# Altium footprint library RLC.PcbLib: 45 footprints (part 2 of 3)
Each footprint in its own frame and in the unit in brackets; x right, y up, seen from the top. Pads: shape width x height; smd on the part's side, far side on the other; paste and mask are expansions set on the pad; w line width, h text height; cw(c..) or ccw(c..) is an arc to the next point about the centre after c.
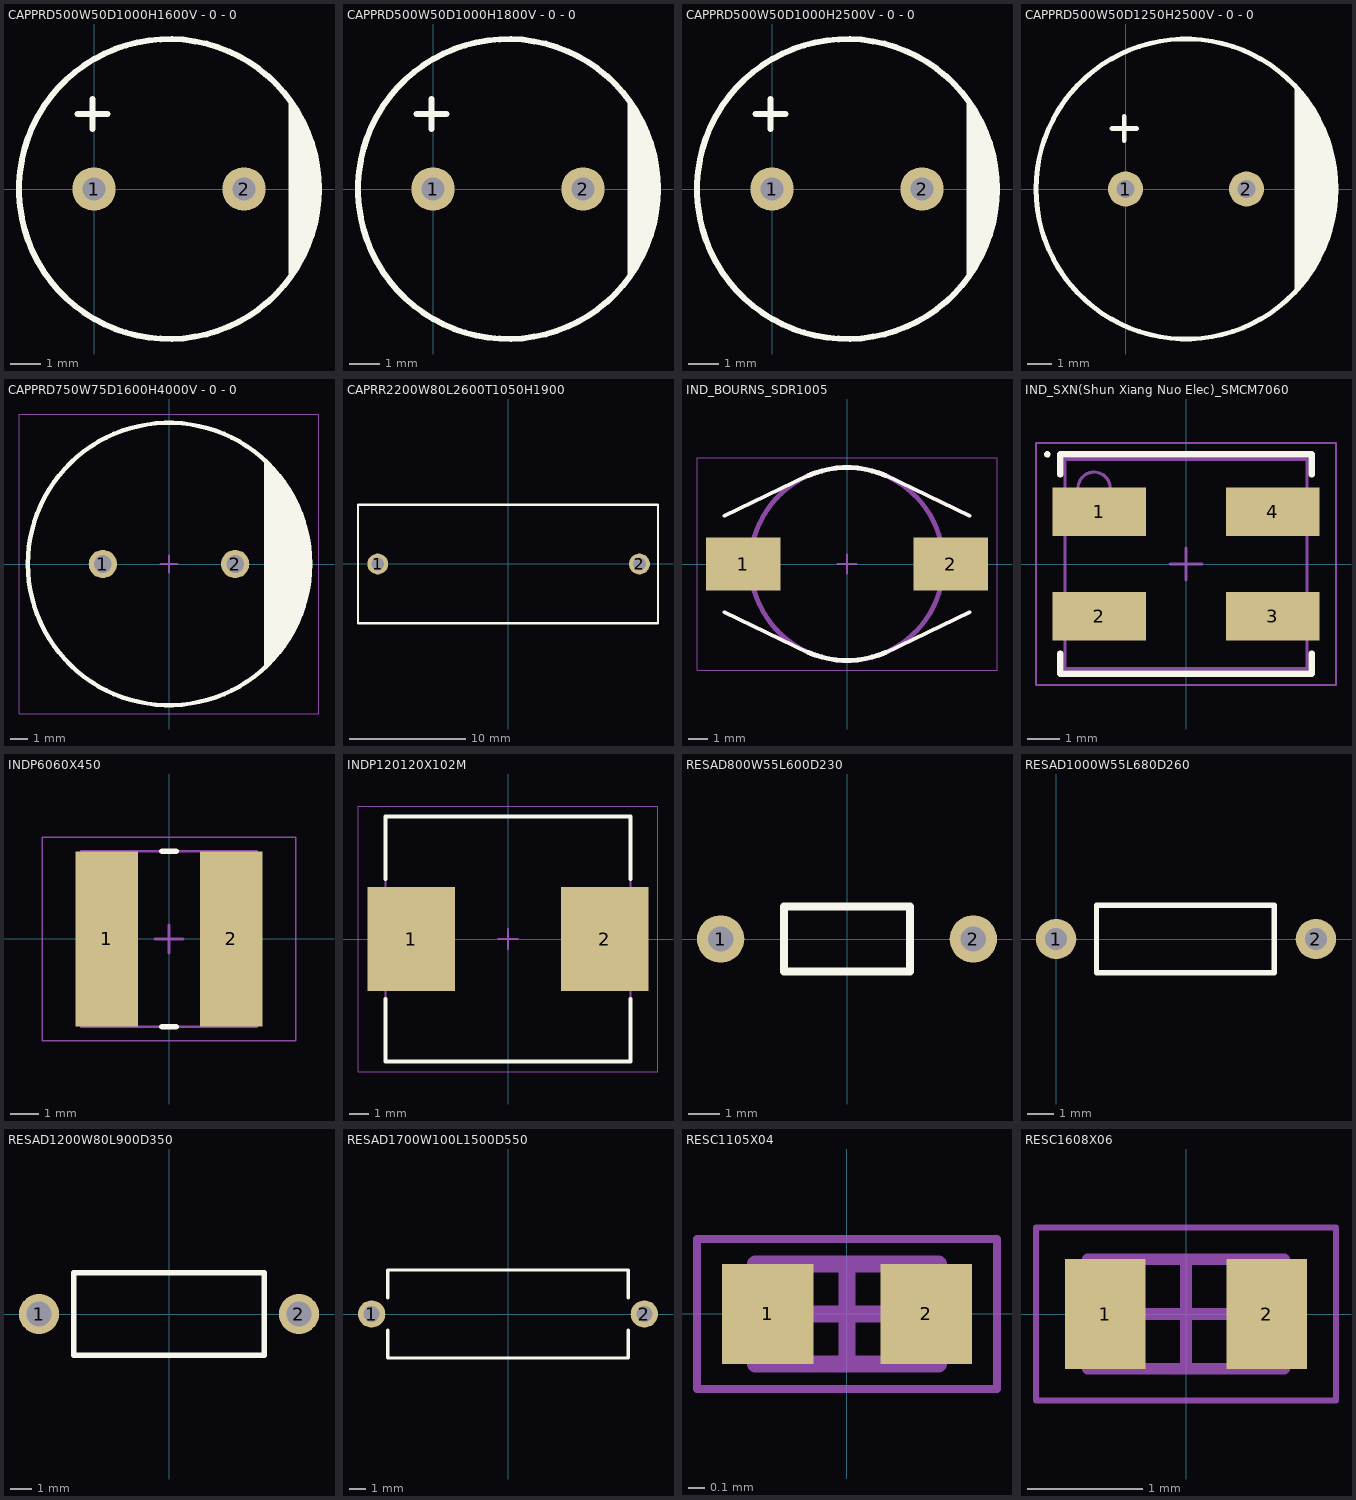
[diagram p1: the footprints below, top view; thin cyan lines are the x and y axes]

## CAPPRD500W50D1000H1600V - 0 - 0 [mm] "CAP ALUM RADIAL DIA 10MM HEIGHT 16MM PITCH 5MM"
height 16
pads (2):
  round 1.45 hole 0.75: 1(0,0) 2(5,0)
Top Overlay:
  circle w0.2: c2.5,0 r5
  region: 6.5,3 6.5,-3 7.2,-1.8 7.5,-0.4 7.5,0.7 7,2.3
  lines w0.2: -0.558,2.5 0.458,2.5 ; -0.05,1.992 -0.05,3.008
3D body: height 10, standoff 0, extent 8.8,2.4 8.8,2.4
3D body: height 16, standoff 0, extent -2.5,-5 7.5,5

## CAPPRD500W50D1000H1800V - 0 - 0 [mm] "CAP ALUM RADIAL DIA 10MM HEIGHT 18MM PITCH 5MM"
height 18
pads (2):
  round 1.45 hole 0.75: 1(0,0) 2(5,0)
Top Overlay:
  circle w0.2: c2.5,0 r5
  region: 6.5,3 6.5,-3 7.2,-1.8 7.5,-0.4 7.5,0.7 7,2.3
  lines w0.2: -0.558,2.5 0.458,2.5 ; -0.05,1.992 -0.05,3.008
3D body: height 10, standoff 0, extent 8.8,2.4 8.8,2.4
3D body: height 18, standoff 0, extent -2.5,-5 7.5,5

## CAPPRD500W50D1000H2500V - 0 - 0 [mm] "CAP ALUM RADIAL DIA 10MM HEIGHT 25MM PITCH 5MM"
height 25
pads (2):
  round 1.45 hole 0.75: 1(0,0) 2(5,0)
Top Overlay:
  circle w0.2: c2.5,0 r5
  region: 6.5,3 6.5,-3 7.2,-1.8 7.5,-0.4 7.5,0.7 7,2.3
  lines w0.2: -0.558,2.5 0.458,2.5 ; -0.05,1.992 -0.05,3.008
3D body: height 10, standoff 0, extent 8.8,2.4 8.8,2.4
3D body: height 25, standoff 0, extent -2.5,-5 7.5,5

## CAPPRD500W50D1250H2500V - 0 - 0 [mm] "CAP ALUM RADIAL DIA 12.5MM HEIGHT 25MM PITCH 5MM"
height 25
pads (2):
  round 1.45 hole 0.75: 1(0,0) 2(5,0)
Top Overlay:
  circle w0.2: c2.5,0 r6.201
  region: 7,4.2 7,-4.2 7.8,-3.3 8.4,-2 8.7,-0.2 8.6,1.2 8,2.9 7.6,3.6
  lines w0.2: -0.558,2.5 0.458,2.5 ; -0.05,1.992 -0.05,3.008
3D body: height 10, standoff 0, extent 8.8,2.4 8.8,2.4
3D body: height 25, standoff 0, extent -3.75,-6.247 8.75,6.247

## CAPPRD750W75D1600H4000V - 0 - 0 [mm] "CAP ALUM RADIAL DIA 16MM HEIGHT 40MM PITCH 7.5MM"
height 40
pads (2):
  round 1.6 hole 1: 1(-3.75,0) 2(3.75,0)
Top Overlay:
  circle w0.254: c0,0 r8
  region: 5.5,5.75 5.5,-5.75 7,-4 8,-1 8,0.5 7.5,2.5 7,4
  lines w0.254: 5.5,-5.75 5.5,5.75
Board:
  lines w0.05: -8.5,-8.5 8.5,-8.5 8.5,8.5 -8.5,8.5 -8.5,-8.5
  lines w0.1: -0.5,0 0.5,0 ; 0,-0.5 0,0.5
3D body: height 40, standoff 0, extent -8,-8.003 8,7.997

## CAPRR2200W80L2600T1050H1900 [mm] "Capacitor, Non Polarized 26x10.5mm"
height 19
pads (2):
  round 1.8 hole 1.1: 1(-11.2,0) 2(11.3,0)
Top Overlay:
  lines w0.2: -12.9,-5.1 12.9,-5.1 12.9,5.1 -12.9,5.1 -12.9,-5.1
3D body: height 19, standoff 1, extent -13,-5.25 13,5.25

## IND_BOURNS_SDR1005 [mm] "Inductor, Miscellaneous"
height 5.3
pads (2):
  rect 3.85x2.75 smd: 1(-5.375,0) 2(5.375,0)
Top Overlay:
  lines w0.2: -6.35,-2.5 -2,-4.6 ; -6.35,2.5 -2,4.6 ; 2,-4.6 6.35,-2.5 ; 2,4.6 6.35,2.5
  lines w0.254: -1.994,-4.585 ccw(c0,0) 1.994,-4.585 ; -1.994,4.585 cw(c0,0) 1.994,4.585
TopAssy:
  lines w0.2: -6.35,-2.5 -2,-4.6 ; -6.35,2.5 -2,4.6 ; 2,-4.6 6.35,-2.5 ; 2,4.6 6.35,2.5
  lines w0.254: -1.994,-4.585 ccw(c0,0) 1.994,-4.585 ; -1.994,4.585 cw(c0,0) 1.994,4.585
3D Body:
  circle w0.254: c0,0 r5
Board:
  lines w0.05: -7.775,-5.5 -7.775,5.5 7.775,5.5 7.775,-5.5 -7.775,-5.5
  lines w0.1: -0.5,0 0.5,0 ; 0,-0.5 0,0.5
3D body: height 5, standoff 0, extent -5,0 0,5
3D body: height 1.24, standoff -1.25, extent 0,5 0,5
3D body: height 5, standoff 0, extent -5,-5 0,0
3D body: height 5, standoff 0, extent 0,-5 5,0
3D body: height 5, standoff 0, extent 0,0 5,5
3D body: height 2, standoff 0, extent -6.5,-4.619 -1.913,4.619
3D body: height 2, standoff 0, extent 1.913,-4.619 6.5,4.619

## IND_SXN(Shun Xiang Nuo Elec)_SMCM7060 [mm] "SMD 7x6mm"
height 3.8
pads (4):
  rect 2.9x1.5 smd: 1(-2.695,1.625) 2(-2.695,-1.625) 3(2.695,-1.625) 4(2.695,1.625)
Top Overlay:
  circle w0.1: c-4.3,3.4 r0.05
  lines w0.2: -3.9,-2.775 -3.9,-3.4 3.9,-3.4 3.9,-2.775 ; -3.9,2.775 -3.9,3.4 3.9,3.4 3.9,2.775
3D Body:
  circle w0.1: c-2.85,2.35 r0.5
  lines w0.1: -3.75,-3.25 3.75,-3.25 3.75,3.25 -3.75,3.25 -3.75,-3.25
Board:
  lines w0.05: -4.65,-3.75 4.65,-3.75 4.65,3.75 -4.65,3.75 -4.65,-3.75
  lines w0.1: -0.5,0 0.5,0 ; 0,-0.5 0,0.5
3D body: height 3.8, standoff 0, extent -3.75,-3.25 3.75,3.25

## INDP6060X450 [mm] "Precision Wire Wound Inductor, 2-Leads, Body 6,00x6,00mm, IPC Low Density"
height 4.5
pads (2):
  rect 2.2x6.2 smd: 1(-2.2,0) 2(2.2,0)
Top Overlay:
  lines w0.2: -0.25,-3.1 0.25,-3.1 ; -0.25,3.1 0.25,3.1
3D Body:
  lines w0.1: -3.1,-3.1 -3.1,3.1 3.1,3.1 3.1,-3.1 -3.1,-3.1
Board:
  lines w0.05: -4.475,-3.6 -4.475,3.6 4.475,3.6 4.475,-3.6 -4.475,-3.6
  lines w0.1: -0.5,0 0.5,0 ; 0,-0.5 0,0.5
3D body: height 4.5, standoff 0, extent -3.1,-3.1 3.1,3.1

## INDP120120X102M [mm] "Precision Wire Wound Inductor, 2-Leads, Body 12,00x12,00mm, IPC Low Density"
height 10.2
pads (2):
  rect 4.4x5.2 smd: 1(-4.85,0) 2(4.85,0)
Top Overlay:
  lines w0.2: -6.15,-3 -6.15,-6.15 6.15,-6.15 6.15,-3 ; -6.15,3 -6.15,6.15 6.15,6.15 6.15,3
3D Body:
  lines w0.1: -6.15,-6.15 -6.15,6.15 6.15,6.15 6.15,-6.15 -6.15,-6.15
Board:
  lines w0.05: -7.525,-6.65 -7.525,6.65 7.525,6.65 7.525,-6.65 -7.525,-6.65
  lines w0.1: -0.5,0 0.5,0 ; 0,-0.5 0,0.5
3D body: height 10.2, standoff 0, extent -6.15,-6.15 6.15,6.15

## RESAD800W55L600D230 [mm] "Resistor Lead Spacing 8mm Len 6mm Dia 2.3mm"
height 2.3
pads (2):
  round 1.5 hole 0.8: 1(-4,0) 2(4,0)
Top Overlay:
  lines w0.254: -2,-1.025 -2,1.025 2,1.025 2,-1.025 -2,-1.025
3D body: height 3.29, standoff 1, extent -3,-1.15 3,1.145

## RESAD1000W55L680D260 [mm] "Resistor Lead Spacing 10mm Len 6.8mm Dia 2.6mm"
height 3
pads (2):
  round 1.55 hole 0.85: 1(0,0) 2(10,0)
Top Overlay:
  lines w0.2: 1.55,-1.3 1.55,0 1.55,1.3 8.4,1.3 8.4,-1.3 1.55,-1.3
3D body: height 3.29, standoff 0.7, extent 1.6,-1.3 8.4,1.295

## RESAD1200W80L900D350 [mm] "Resistor Lead Spacing 12mm Len 9mm Dia 3.5mm"
height 3.5
pads (2):
  round 1.85 hole 1.15: 1(-6,0) 2(6,0)
Top Overlay:
  lines w0.254: -4.4,-1.9 4.4,-1.9 4.4,1.9 -4.4,1.9 -4.4,-1.9
3D body: height 5, standoff 1, extent -4.5,-2 4.5,2

## RESAD1700W100L1500D550 [mm] "Resistor Lead Spacing 17mm Len 158mm Dia 5.5mm"
height 5.5
pads (2):
  round 1.7 hole 1: 1(-8.5,0) 2(8.5,0)
Top Overlay:
  lines w0.2: -7.5,-1 -7.5,-2.75 7.5,-2.75 7.5,-1 ; -7.5,1 -7.5,2.75 7.5,2.75 7.5,1
3D body: height 5.75, standoff 0.25, extent -7.5,-2.75 7.5,2.75

## RESC1105X04 [mm] "Chip Resistor, 2-Leads, Body 1,05x0,54mm, IPC Medium Density 0402"
height 0.4
pads (2):
  rect 0.55x0.6 smd: 1(-0.475,0) 2(0.475,0)
3D Body:
  lines w0.1: -0.55,-0.3 -0.55,0.3 0.55,0.3 0.55,-0.3 -0.55,-0.3
Board:
  lines w0.05: -0.9,-0.45 -0.9,0.45 0.9,0.45 0.9,-0.45 -0.9,-0.45
  lines w0.1: -0.3,0 0.3,0 ; 0,-0.3 0,0.3
3D body: height 0.4, standoff 0, extent -0.35,-0.3 0.35,0.3
3D body: height 0.4, standoff 0, extent -0.55,-0.3 -0.35,0.3
3D body: height 0.4, standoff 0, extent 0.35,-0.3 0.55,0.3

## RESC1608X06 [mm] "Chip Resistor, 2-Leads, Body 1,60x0,82mm, IPC Medium Density 0603"
height 0.6
pads (2):
  rect 0.7x0.95 smd: 1(-0.7,0) 2(0.7,0)
3D Body:
  lines w0.1: -0.85,-0.475 0.85,-0.475 0.85,0.475 -0.85,0.475 -0.85,-0.475
Board:
  lines w0.05: -1.3,-0.75 1.3,-0.75 1.3,0.75 -1.3,0.75 -1.3,-0.75
  lines w0.1: -0.475,0 0.475,0 ; 0,-0.475 0,0.475
3D body: height 0.6, standoff 0, extent 0.57,-0.475 0.85,0.475
3D body: height 0.6, standoff 0, extent -0.85,-0.475 -0.57,0.475
3D body: height 0.6, standoff 0, extent -0.57,-0.475 0.57,0.475